# Altium footprint library ESP32-S3-WROOM-1.PcbLib: 1 footprints
Each footprint in its own frame and in the unit in brackets; x right, y up, seen from the top. Pads: shape width x height; smd on the part's side, far side on the other; paste and mask are expansions set on the pad; w line width, h text height; cw(c..) or ccw(c..) is an arc to the next point about the centre after c.
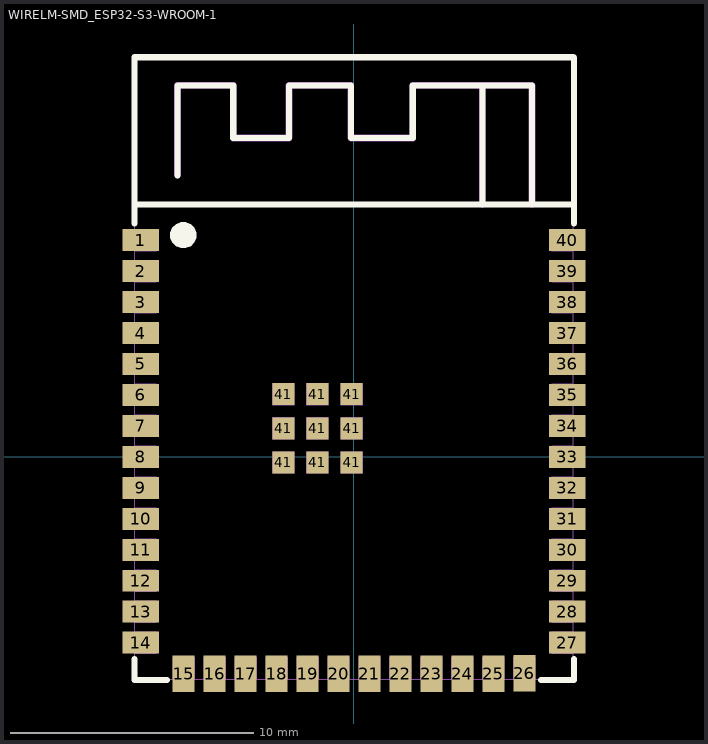
[diagram p0: the footprint, top view; thin cyan lines are the x and y axes]

## WIRELM-SMD_ESP32-S3-WROOM-1 [mm]
pads (49):
  rect 1.5x0.9 smd paste+0 mask+0.05: 1(-8.75,8.895) 2(-8.75,7.625) 3(-8.75,6.355) 4(-8.75,5.085) 5(-8.75,3.815) 6(-8.75,2.545) 7(-8.75,1.275) 8(-8.75,0.005) 9(-8.75,-1.265) 10(-8.75,-2.535) 11(-8.75,-3.805) 12(-8.75,-5.075) 13(-8.75,-6.345) 14(-8.75,-7.615) 27(8.75,-7.615) 28(8.75,-6.345) 29(8.75,-5.075) 30(8.75,-3.805) 31(8.75,-2.535) 32(8.75,-1.265) 33(8.75,0.005) 34(8.75,1.275) 35(8.75,2.545) 36(8.75,3.815) 37(8.75,5.085) 38(8.75,6.355) 39(8.75,7.625) 40(8.75,8.895)
  rect 0.9x1.5 smd paste+0 mask+0.05: 15(-6.985,-8.895) 16(-5.715,-8.895) 17(-4.445,-8.895) 18(-3.175,-8.895) 19(-1.905,-8.895) 20(-0.635,-8.895) 21(0.635,-8.895) 22(1.905,-8.895) 23(3.175,-8.895) 24(4.445,-8.895) 25(5.715,-8.895) 26(6.985,-8.865)
  rect 0.9x0.9 smd: 41(-2.9,-0.225) 41(-2.9,1.175) 41(-2.9,2.575) 41(-1.5,-0.225) 41(-1.5,1.175) 41(-1.5,2.575) 41(-0.1,-0.225) 41(-0.1,1.175) 41(-0.1,2.575)
Top Overlay:
  region: -7.529,9.1 -7.529,9.205 -7.448,9.399 -7.299,9.548 -7.105,9.629 -6.895,9.629 -6.701,9.548 -6.552,9.399 -6.471,9.205 -6.471,9.1 -6.471,8.995 -6.552,8.801 -6.701,8.652 -6.895,8.571 -7.105,8.571 -7.299,8.652 -7.448,8.801 -7.529,8.995 -7.529,9.1
  lines w0.254: -9,-8.296 -9,-9.144 -7.666,-9.144 ; -9,9.576 -9,16.395 9,16.395 ; -9,10.355 9.017,10.355 ; -7.239,11.557 -7.239,15.24 -4.953,15.24 -4.953,13.081 -2.667,13.081 -2.667,15.24 -0.127,15.24 -0.127,13.081 2.413,13.081 2.413,15.24 5.265,15.24 5.265,10.355 ; 5.062,15.24 7.297,15.24 7.297,10.355 ; 7.666,-9.144 9.017,-9.144 9.017,-8.296 ; 9.017,9.576 9.017,16.383
Mechanical 6:
  drawing of 2 lines, arcs and shapes, not listed
Mechanical 15:
  drawing of 54 lines, arcs and shapes, not listed
3D body "ESP32-S3-WROOM.step": height 3.11, standoff -0.05, extent -9.01,-9.331 9.01,16.179